# EAGLE library part ADAPTER (library Poe)
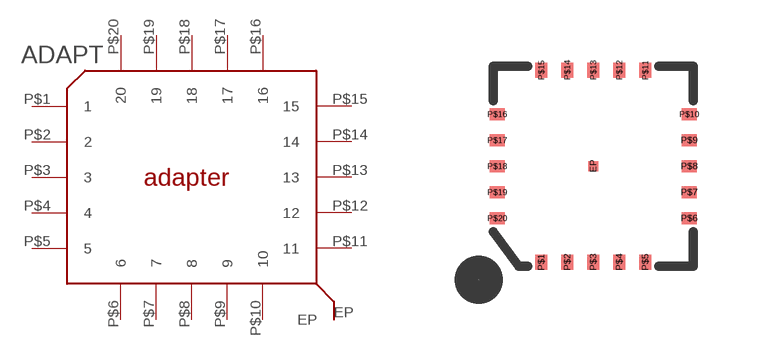
[diagram p15: symbol with the pads of ADAPTER; footprint ADAPTER]

Designator prefix ADAPT

## ADAPTER  [ADAPTER]
EP  EP
P$1  1
P$2  2
P$3  3
P$4  4
P$5  5
P$6  6
P$7  7
P$8  8
P$9  9
P$10  10
P$11  11
P$12  12
P$13  13
P$14  14
P$15  15
P$16  16
P$17  17
P$18  18
P$19  19
P$20  20

## Footprint ADAPTER (pad centres in mm)
smd 0.254 x 0.254: EP 0,0
smd 0.305 x 0.381: P$1 -1.3,-2.4; P$2 -0.65,-2.4; P$3 0,-2.4; P$4 0.65,-2.4; P$5 1.3,-2.4; P$11 1.3,2.4; P$12 0.65,2.4; P$13 0,2.4; P$14 -0.65,2.4; P$15 -1.3,2.4
smd 0.381 x 0.305: P$6 2.4,-1.3; P$7 2.4,-0.65; P$8 2.4,0; P$9 2.4,0.65; P$10 2.4,1.3; P$16 -2.4,1.3; P$17 -2.4,0.65; P$18 -2.4,0; P$19 -2.4,-0.65; P$20 -2.4,-1.3